# Altium schematic symbol library Battery Holders.SchLib: 1 symbol
Pins are listed as number, name and electrical type; pins without a type are passive.

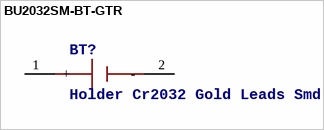
[diagram p0: symbol BU2032SM-BT-GTR]

## BU2032SM-BT-GTR
designator BT?, comment Holder Cr2032 Gold Leads Smd
MF: MPD; MP: BU2032SM-BT-GTR; Price: 0.64 USD; Package: None; Availability: Good
footprint CR2032 Holder _ "White"
pins: 1 +, 2 -